# EAGLE library part A-PRO-MINI (library we-board)
Wattuino Pro Mini (Arduino Pro Mini Clone with ATmega328)
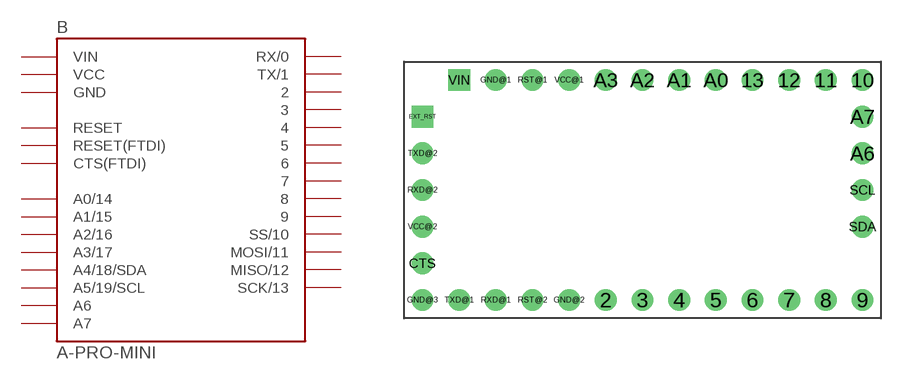
[diagram p5: symbol with the pads of A-PRO-MINI_TP; footprint A-PRO-MINI_TP]

Designator prefix B

## A-PRO-MINI-TP  [A-PRO-MINI_TP]
2  2
3  3
4  4
5  5
6  6
7  7
8  8
9  9
10  SS/10
11  MOSI/11
12  MISO/12
13  SCK/13
A0  A0/14
A1  A1/15
A2  A2/16
A3  A3/17
A6  A6
A7  A7
CTS  CTS(FTDI)
EXT_RST  RESET(FTDI)
GND@1  GND  pwr
GND@2  GND  pwr
GND@3  GND  pwr
RST@1  RESET
RST@2  RESET
RXD@1  RX/0
RXD@2  RX/0
SCL  A5/19/SCL
SDA  A4/18/SDA
TXD@1  TX/1
TXD@2  TX/1
VCC@1  VCC  pwr
VCC@2  VCC  pwr
VIN  VIN  pwr

## Footprint A-PRO-MINI_TP (pad centres in mm)
21 tPlace
drill 1: 2 -2.54,-7.62; 3 0,-7.62; 4 2.54,-7.62; 5 5.08,-7.62; 6 7.62,-7.62; 7 10.16,-7.62; 8 12.7,-7.62; 9 15.24,-7.62; 10 15.24,7.62; 11 12.7,7.62; 12 10.16,7.62; 13 7.62,7.62; A0 5.08,7.62; A1 2.54,7.62; A2 0,7.62; A3 -2.54,7.62; A6 15.24,2.54; A7 15.24,5.08; CTS -15.24,-5.08; GND@1 -10.16,7.62; GND@2 -5.08,-7.62; GND@3 -15.24,-7.62; RST@1 -7.62,7.62; RST@2 -7.62,-7.62; RXD@1 -10.16,-7.62; RXD@2 -15.24,0; SCL 15.24,0; SDA 15.24,-2.54; TXD@1 -12.7,-7.62; TXD@2 -15.24,2.54; VCC@1 -5.08,7.62; VCC@2 -15.24,-2.54
drill 1 square: EXT_RST -15.24,5.08; VIN -12.7,7.62